# EAGLE library part TYCO-AMPMODU-8P (library Traficon)
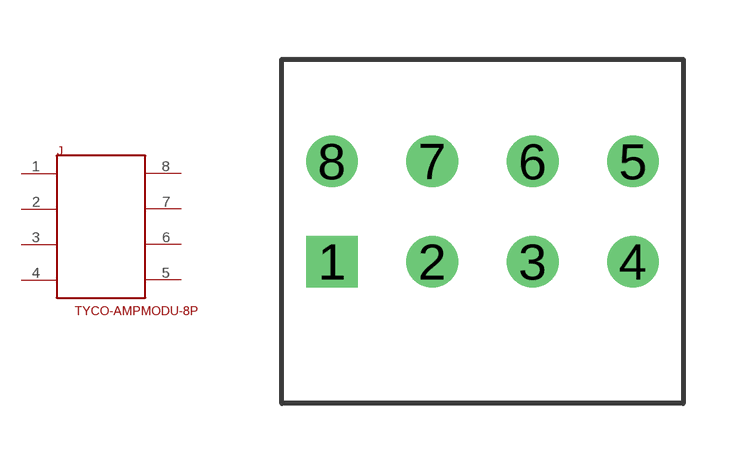
[diagram p251: symbol with the pads of AMPMODU-8; footprint AMPMODU-8]

Designator prefix J

## TYCO-AMPMODU-8P  [AMPMODU-8]
1  P$1
2  P$2
3  P$3
4  P$4
5  P$5
6  P$6
7  P$7
8  P$8

## Footprint AMPMODU-8 (pad centres in mm)
drill 0.8 square: 1 -3.81,0
drill 0.8 round: 2 -1.27,0; 3 1.27,0; 4 3.81,0; 5 3.81,2.54; 6 1.27,2.54; 7 -1.27,2.54; 8 -3.81,2.54